# EAGLE library part TD-124-G-A (library SAMTEC-Txx_By_element14_Batch_1)
CONN RECEPTACLE, 2.54MM, THT VERT, 48WAY
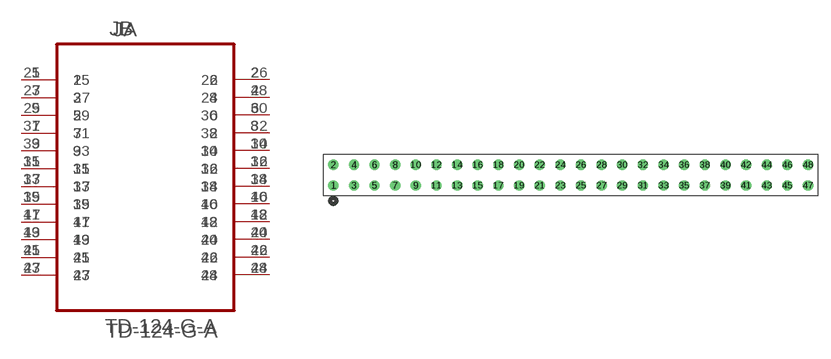
[diagram p54: symbol with the pads of SAMTEC_TD-124-G-A; footprint SAMTEC_TD-124-G-A]

Designator prefix J; gates A=TD-124-G-A_A B=TD-124-G-A_B

## TD-124-G-A (MPN: TD-124-G-A; OC_FARNELL: 2020212; OC_NEWARK: -; PACKAGE: RECEPTACLE, 2.54MM, THT VERT,48WAY; SUPPLIER: SAMTEC)  [SAMTEC_TD-124-G-A]
1  A:1  pas
2  A:2  pas
3  A:3  pas
4  A:4  pas
5  A:5  pas
6  A:6  pas
7  A:7  pas
8  A:8  pas
9  A:9  pas
10  A:10  pas
11  A:11  pas
12  A:12  pas
13  A:13  pas
14  A:14  pas
15  A:15  pas
16  A:16  pas
17  A:17  pas
18  A:18  pas
19  A:19  pas
20  A:20  pas
21  A:21  pas
22  A:22  pas
23  A:23  pas
24  A:24  pas
25  B:25  pas
26  B:26  pas
27  B:27  pas
28  B:28  pas
29  B:29  pas
30  B:30  pas
31  B:31  pas
32  B:32  pas
33  B:33  pas
34  B:34  pas
35  B:35  pas
36  B:36  pas
37  B:37  pas
38  B:38  pas
39  B:39  pas
40  B:40  pas
41  B:41  pas
42  B:42  pas
43  B:43  pas
44  B:44  pas
45  B:45  pas
46  B:46  pas
47  B:47  pas
48  B:48  pas

## Footprint SAMTEC_TD-124-G-A (pad centres in mm)
drill 0.762: 1 -58.42,-2.54; 2 -58.42,0; 3 -55.88,-2.54; 4 -55.88,0; 5 -53.34,-2.54; 6 -53.34,0; 7 -50.8,-2.54; 8 -50.8,0; 9 -48.26,-2.54; 10 -48.26,0; 11 -45.72,-2.54; 12 -45.72,0; 13 -43.18,-2.54; 14 -43.18,0; 15 -40.64,-2.54; 16 -40.64,0; 17 -38.1,-2.54; 18 -38.1,0; 19 -35.56,-2.54; 20 -35.56,0; 21 -33.02,-2.54; 22 -33.02,0; 23 -30.48,-2.54; 24 -30.48,0; 25 -27.94,-2.54; 26 -27.94,0; 27 -25.4,-2.54; 28 -25.4,0; 29 -22.86,-2.54; 30 -22.86,0; 31 -20.32,-2.54; 32 -20.32,0; 33 -17.78,-2.54; 34 -17.78,0; 35 -15.24,-2.54; 36 -15.24,0; 37 -12.7,-2.54; 38 -12.7,0; 39 -10.16,-2.54; 40 -10.16,0; 41 -7.62,-2.54; 42 -7.62,0; 43 -5.08,-2.54; 44 -5.08,0; 45 -2.54,-2.54; 46 -2.54,0; 47 0,-2.54; 48 0,0